# Altium footprint library Chip Capacitor - 2 Contacts.PcbLib: 24 footprints (part 1 of 2)
Each footprint in its own frame and in the unit in brackets; x right, y up, seen from the top. Pads: shape width x height; smd on the part's side, far side on the other; paste and mask are expansions set on the pad; w line width, h text height; cw(c..) or ccw(c..) is an arc to the next point about the centre after c.
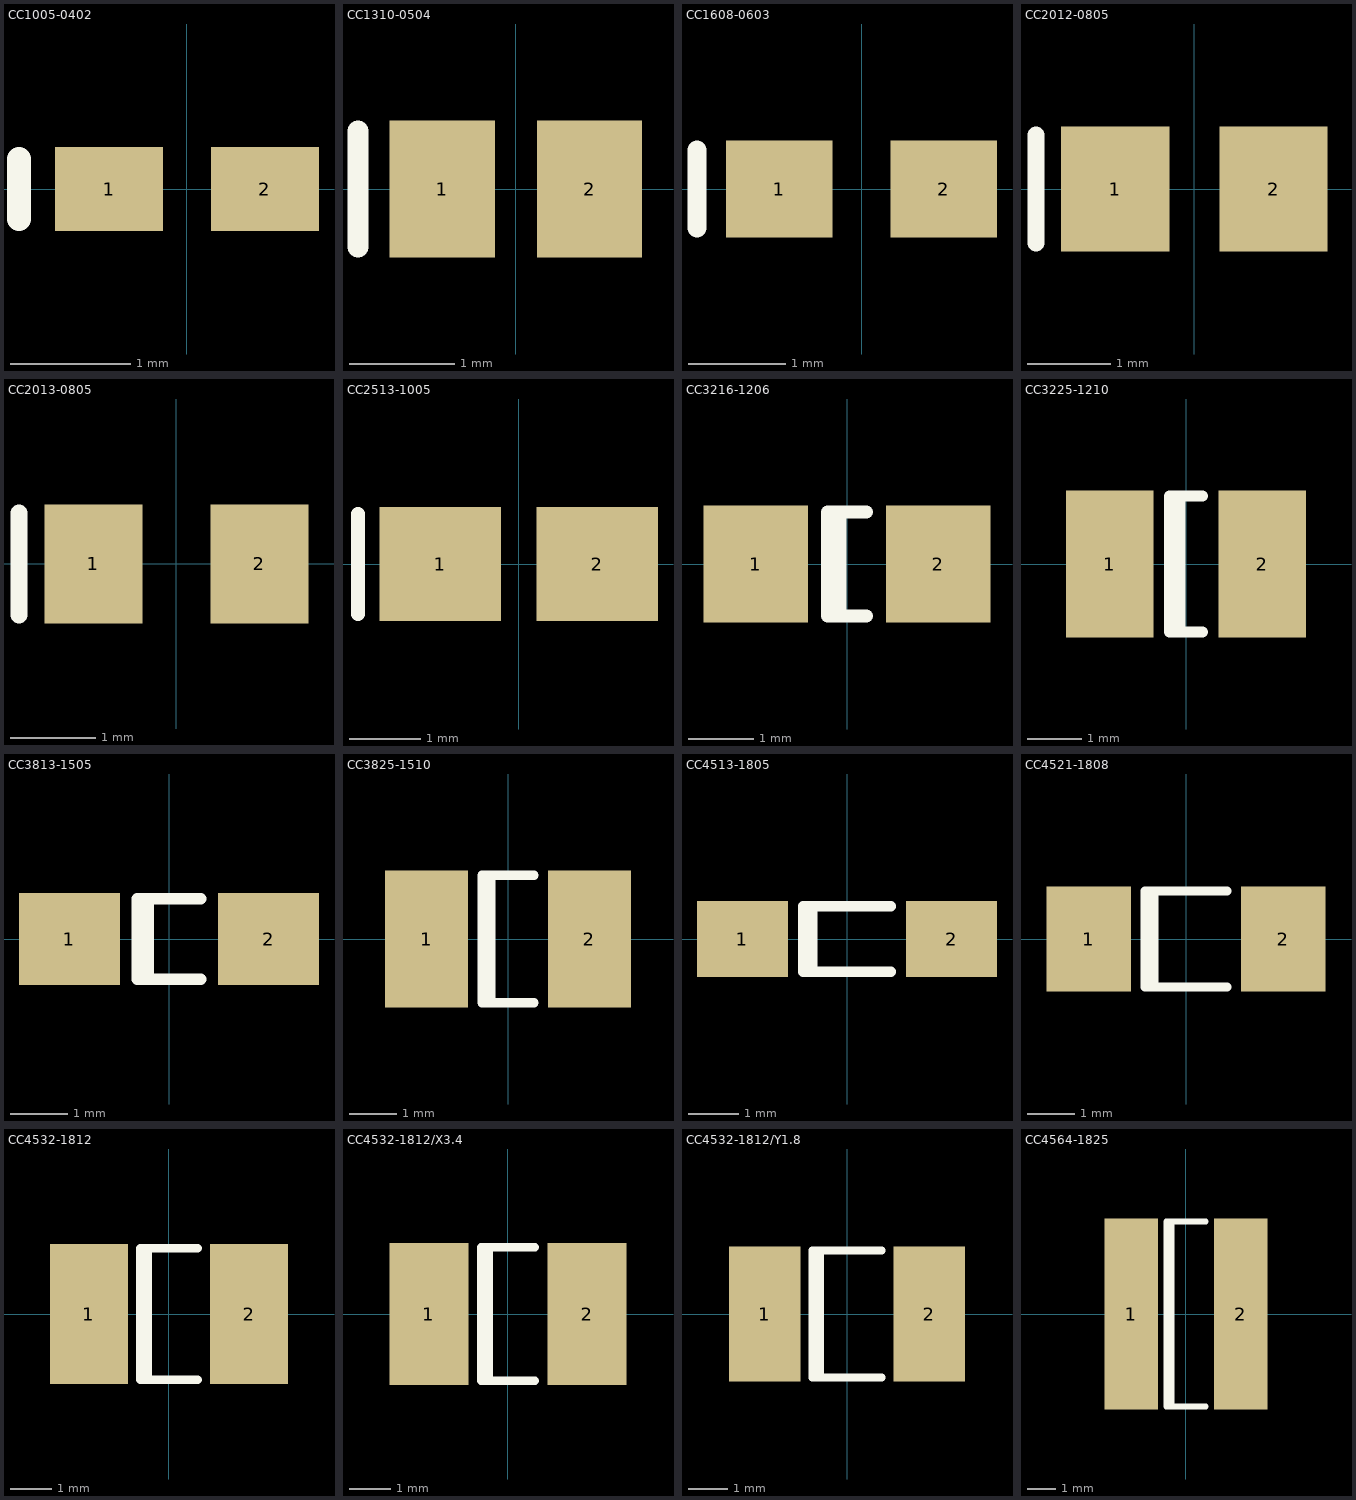
[diagram p0: the footprints below, top view; thin cyan lines are the x and y axes]

## CC1005-0402 [mm] "Chip Capacitor; Body 1.0 x 0.5 mm (LxW typ)"
height 0.6
pads (2):
  rect 0.9x0.7 smd: 1(-0.65,0) 2(0.65,0)
Top Overlay:
  lines w0.2: -1.4,-0.25 -1.4,0.25

## CC1310-0504 [mm] "Chip Capacitor; Body 1.2 x 1.0 mm (LxW typ)"
height 1.02
pads (2):
  rect 1x1.3 smd: 1(-0.7,0) 2(0.7,0)
Top Overlay:
  lines w0.2: -1.5,-0.55 -1.5,0.55

## CC1608-0603 [mm] "Chip Capacitor; Body 1.6 x 0.8 mm (LxW typ)"
height 0.85
pads (2):
  rect 1.1x1 smd: 1(-0.85,0) 2(0.85,0)
Top Overlay:
  lines w0.2: -1.7,-0.4 -1.7,0.4

## CC2012-0805 [mm] "Chip Capacitor; Body 2.0 x 1.2 mm (LxW typ)"
height 1.1
pads (2):
  rect 1.3x1.5 smd: 1(-0.95,0) 2(0.95,0)
Top Overlay:
  lines w0.2: -1.9,-0.65 -1.9,0.65

## CC2013-0805 [mm] "Chip Capacitor; Body 2.0 x 1.3 mm (LxW typ)"
height 1.35
pads (2):
  rect 1.15x1.4 smd: 1(-0.975,0) 2(0.975,0)
Top Overlay:
  lines w0.2: -1.85,-0.6 -1.85,0.6

## CC2513-1005 [mm] "Chip Capacitor; Body 2.54 x 1.27 mm (LxW typ)"
height 1.66
pads (2):
  rect 1.7x1.6 smd: 1(-1.1,0) 2(1.1,0)
Top Overlay:
  lines w0.2: -2.25,-0.7 -2.25,0.7

## CC3216-1206 [mm] "Chip Capacitor; Body 3.2 x 1.6 mm (LxW typ)"
height 1.35
pads (2):
  rect 1.6x1.8 smd: 1(-1.4,0) 2(1.4,0)
Top Overlay:
  lines w0.2: -0.11,-0.8 -0.11,0.8 ; 0.3,-0.8 -0.3,-0.8 -0.3,0.8 0.3,0.8

## CC3225-1210 [mm] "Chip Capacitor; Body 3.2 x 2.5 mm (LxW typ)"
height 1.35
pads (2):
  rect 1.6x2.7 smd: 1(-1.4,0) 2(1.4,0)
Top Overlay:
  lines w0.2: -0.11,-1.25 -0.11,1.25 ; 0.3,-1.25 -0.3,-1.25 -0.3,1.25 0.3,1.25

## CC3813-1505 [mm] "Chip Capacitor; Body 3.81 x 1.27 mm (LxW typ)"
height 1.66
pads (2):
  rect 1.75x1.6 smd: 1(-1.725,0) 2(1.725,0)
Top Overlay:
  lines w0.2: -0.36,-0.7 -0.36,0.7 ; 0.55,-0.7 -0.55,-0.7 -0.55,0.7 0.55,0.7

## CC3825-1510 [mm] "Chip Capacitor; Body 3.81 x 2.54 mm (LxW typ)"
height 1.66
pads (2):
  rect 1.75x2.9 smd: 1(-1.725,0) 2(1.725,0)
Top Overlay:
  lines w0.2: -0.36,-1.35 -0.36,1.35 ; 0.55,-1.35 -0.55,-1.35 -0.55,1.35 0.55,1.35

## CC4513-1805 [mm] "Chip Capacitor; Body 4.5 x 1.3 mm (LxW typ)"
height 1.4
pads (2):
  rect 1.8x1.5 smd: 1(-2.075,0) 2(2.075,0)
Top Overlay:
  lines w0.2: -0.685,-0.65 -0.685,0.65 ; 0.875,-0.65 -0.875,-0.65 -0.875,0.65 0.875,0.65

## CC4521-1808 [mm] "Chip Capacitor; Body 4.5 x 2.0 mm (LxW typ)"
height 2.03
pads (2):
  rect 1.8x2.25 smd: 1(-2.075,0) 2(2.075,0)
Top Overlay:
  lines w0.2: -0.685,-1.025 -0.685,1.025 ; 0.875,-1.025 -0.875,-1.025 -0.875,1.025 0.875,1.025

## CC4532-1812 [mm] "Chip Capacitor; Body 4.5 x 3.2 mm (LxW typ)"
height 1.35
pads (2):
  rect 1.9x3.4 smd: 1(-1.95,0) 2(1.95,0)
Top Overlay:
  lines w0.2: -0.51,-1.6 -0.51,1.6 ; 0.7,-1.6 -0.7,-1.6 -0.7,1.6 0.7,1.6

## CC4532-1812/X3.4 [mm] "Chip Capacitor; Body 4.5 x 3.2 mm (LxW typ)"
height 1.8
pads (2):
  rect 1.9x3.4 smd: 1(-1.9,0) 2(1.9,0)
Top Overlay:
  lines w0.2: -0.46,-1.6 -0.46,1.6 ; 0.65,-1.6 -0.65,-1.6 -0.65,1.6 0.65,1.6

## CC4532-1812/Y1.8 [mm] "Chip Capacitor; Body 4.5 x 3.2 mm (LxW typ)"
height 2.03
pads (2):
  rect 1.8x3.4 smd: 1(-2.075,0) 2(2.075,0)
Top Overlay:
  lines w0.2: -0.685,-1.6 -0.685,1.6 ; 0.875,-1.6 -0.875,-1.6 -0.875,1.6 0.875,1.6

## CC4564-1825 [mm] "Chip Capacitor; Body 4.5 x 6.4 mm (LxW typ)"
height 1.1
pads (2):
  rect 1.9x6.8 smd: 1(-1.95,0) 2(1.95,0)
Top Overlay:
  lines w0.2: -0.51,-3.3 -0.51,3.3 ; 0.7,-3.3 -0.7,-3.3 -0.7,3.3 0.7,3.3